# Altium schematic symbol library ic.SchLib: 19 symbols
Pins are listed as number, name and electrical type; pins without a type are passive.

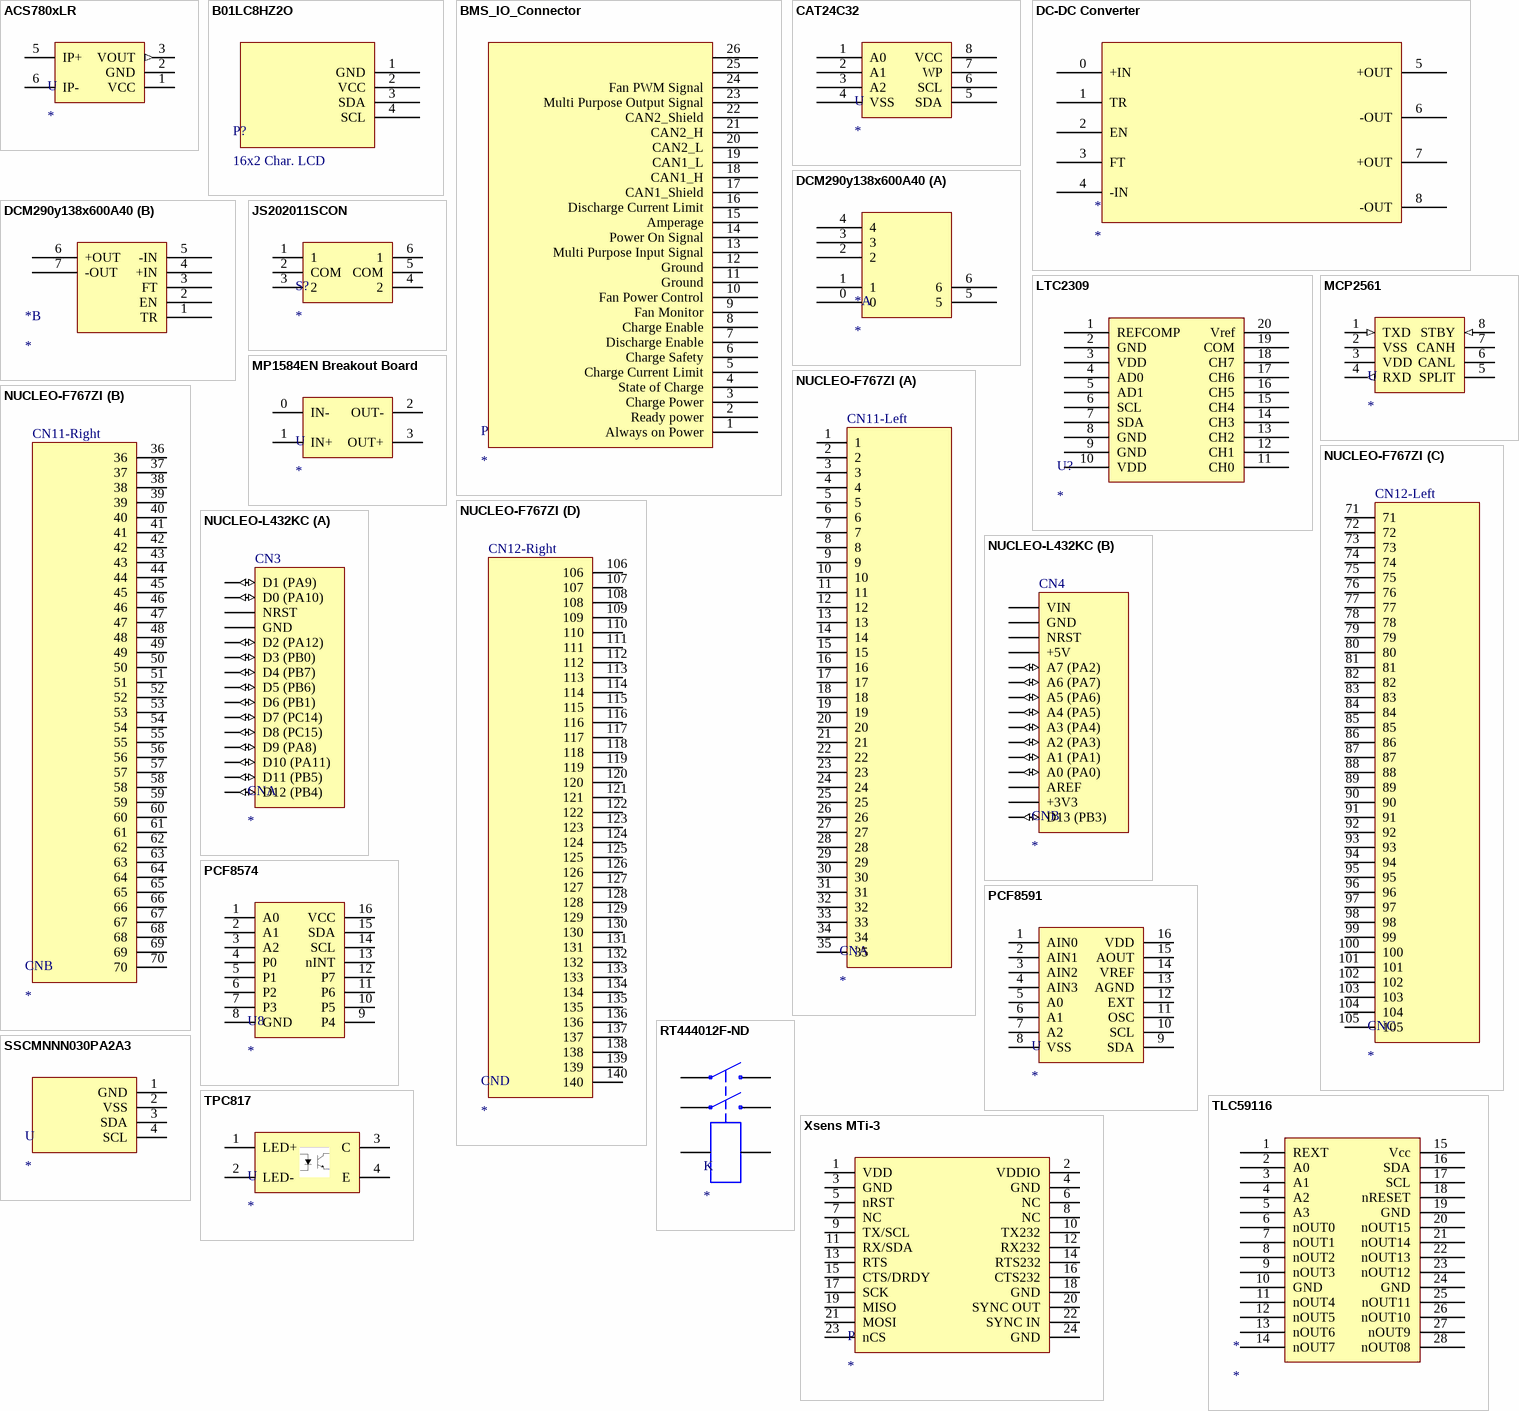
[diagram p0: symbols ACS780xLR to Xsens MTi-3]

## ACS780xLR
designator U
Hall-Effect Current Sensor; ComponentLink1Description: Part; ComponentLink1URL: https://www.digikey.com/product-detail/en/allegro-microsystems-llc/ACS780LLRTR-050B-T/620-1817-1-ND/6189106
footprint 7-pin PSOF (ACS780xLR)
pins: 1 VCC (power) "5V", 2 GND (power), 3 VOUT (out), 5 IP+, 6 IP-

## B01LC8HZ2O
designator P?, comment 16x2 Char. LCD
LCD 16x2 Character; ComponentLink1Description: Part; ComponentLink1URL: https://www.amazon.in/Industry-Interface-Display-Character-MEGA2560/dp/B01LC8HZ2O
footprint B01LC8HZ2O
pins: 1 GND, 2 VCC, 3 SDA, 4 SCL

## BMS_IO_Connector
designator P
pins: 1 Always on Power, 2 Ready power, 3 Charge Power, 4 State of Charge, 5 Charge Current Limit, 6 Charge Safety, 7 Discharge Enable, 8 Charge Enable, 9 Fan Monitor, 10 Fan Power Control, 11 Ground, 12 Ground, 13 Multi Purpose Input Signal, 14 Power On Signal, 15 Amperage, 16 Discharge Current Limit, 17 CAN1_Shield, 18 CAN1_H, 19 CAN1_L, 20 CAN2_L, 21 CAN2_H, 22 CAN2_Shield, 23 Multi Purpose Output Signal, 24 Fan PWM Signal, 25, 26

## CAT24C32
designator U
I2C EEPROM
pins: 1 A0, 2 A1, 3 A2, 4 VSS, 5 SDA, 6 SCL, 7 WP, 8 VCC (power)

## DC-DC Converter
designator *
footprint DCM290y138x600A40
pins: 0 +IN, 1 TR, 2 EN, 3 FT, 4 -IN, 5 +OUT, 6 -OUT, 7 +OUT, 8 -OUT

## DCM290y138x600A40
designator *
footprint DCM290y138x600A40
part A pins: 0, 1, 2, 3, 4, 5, 6
part B pins: 1 TR "Input", 2 EN "Input", 3 FT "Output", 4 +IN "Input Power", 5 -IN "Input Power Negative", 6 +OUT "Output Power", 7 -OUT "Output Power Return"

## JS202011SCON
designator S?
DPST Switch; ComponentLink1Description: Digikey; ComponentLink1URL: https://www.digikey.com/product-detail/en/c-k/JS202011SCQN/401-2002-1-ND/1640098
footprint JS202011SCON
pins: 1, 2 COM, 3 2, 4 2, 5 COM, 6 1

## LTC2309
designator U?
ComponentLink1Description: Datasheet; ComponentLink1URL: http://cds.linear.com/docs/en/datasheet/2309fd.pdf; ComponentLink2Description: Part; ComponentLink2URL: https://www.digikey.com/product-detail/en/linear-technology/LTC2309IF-PBF/LTC2309IF-PBF-ND/1931214
pins: 1 REFCOMP, 2 GND, 3 VDD, 4 AD0, 5 AD1, 6 SCL, 7 SDA, 8 GND, 9 GND, 10 VDD, 11 CH0, 12 CH1, 13 CH2, 14 CH3, 15 CH4, 16 CH5, 17 CH6, 18 CH7, 19 COM, 20 Vref

## MCP2561
designator U
CAN Transciever; ComponentLink1Description: Part; ComponentLink1URL: https://www.digikey.com/product-detail/en/microchip-technology/MCP2561-E-SN/MCP2561-E-SN-ND/4079961; ComponentLink2Description: Datasheet; ComponentLink2URL: http://ww1.microchip.com/downloads/en/DeviceDoc/20005167C.pdf
footprint 8-SOIC
pins: 1 TXD (in) "Transmit Data Input", 2 VSS (power) "Ground", 3 VDD "Supply Voltage", 4 RXD (out) "Receive Data Output", 5 SPLIT "Common Mode Stabilization", 6 CANL, 7 CANH, 8 STBY (in) "Standby Mode Input"

## MP1584EN Breakout Board
designator U
Buck Converter; ComponentLink1Description: Part; ComponentLink1URL: https://www.amazon.com/eBoot-MP1584EN-Converter-Adjustable-Module/dp/B01MQGMOKI/
footprint MP1584EN Breakout (Buck Converter)
pins: 0 IN- (power), 1 IN+ (power) "4.5-28V", 2 OUT- (power), 3 OUT+ (power) "0.8-20V"

## NUCLEO-F767ZI
designator CN
STM32F767ZI Development Board; ComponentLink1Description: MBED; ComponentLink1URL: https://os.mbed.com/platforms/ST-Nucleo-F767ZI/; ComponentLink2Description: Digikey; ComponentLink2URL: https://www.digikey.com/products/en?keywords=NUCLEO-F767ZI
part A pins: 1, 2, 3, 4, 5, 6, 7, 8, 9, 10, 11, 12, 13, 14, 15, 16, 17, 18, 19, 20, 21, 22, 23, 24, 25, 26, 27, 28, 29, 30, 31, 32, 33, 34, 35
part B pins: 36, 37, 38, 39, 40, 41, 42, 43, 44, 45, 46, 47, 48, 49, 50, 51, 52, 53, 54, 55, 56, 57, 58, 59, 60, 61, 62, 63, 64, 65, 66, 67, 68, 69, 70
part C pins: 71, 72, 73, 74, 75, 76, 77, 78, 79, 80, 81, 82, 83, 84, 85, 86, 87, 88, 89, 90, 91, 92, 93, 94, 95, 96, 97, 98, 99, 100, 101, 102, 103, 104, 105
part D pins: 106, 107, 108, 109, 110, 111, 112, 113, 114, 115, 116, 117, 118, 119, 120, 121, 122, 123, 124, 125, 126, 127, 128, 129, 130, 131, 132, 133, 134, 135, 136, 137, 138, 139, 140
part A text: CN11-Left
part B text: CN11-Right
part C text: CN12-Left
part D text: CN12-Right

## NUCLEO-L432KC
designator CN
STM32L432KC Development Board; ComponentLink1Description: MBED; ComponentLink1URL: https://os.mbed.com/platforms/ST-Nucleo-L432KC/; ComponentLink2Description: Digikey; ComponentLink2URL: https://www.digikey.com/products/en?keywords=NUCLEO-L432KC
footprint NUCLEO-32
part A pins: 1 D1 (PA9) (io), 2 D0 (PA10) (io), 3 NRST, 4 GND (power), 5 D2 (PA12) (io), 6 D3 (PB0) (io), 7 D4 (PB7) (io), 8 D5 (PB6) (io), 9 D6 (PB1) (io), 10 D7 (PC14) (io), 11 D8 (PC15) (io), 12 D9 (PA8) (io), 13 D10 (PA11) (io), 14 D11 (PB5) (io), 15 D12 (PB4) (io)
part B pins: 16 D13 (PB3) (io), 17 +3V3 (power), 18 AREF, 19 A0 (PA0) (io), 20 A1 (PA1) (io), 21 A2 (PA3) (io), 22 A3 (PA4) (io), 23 A4 (PA5) (io), 24 A5 (PA6) (io), 25 A6 (PA7) (io), 26 A7 (PA2) (io), 27 +5V (power), 28 NRST, 29 GND (power), 30 VIN (power)
part A text: CN3
part B text: CN4

## PCF8574
designator U8
I2C I/O Expander; ComponentLink1Description: Part; ComponentLink1URL: https://www.digikey.com/product-detail/en/texas-instruments/PCF8574DWR/296-13108-1-ND/484579; ComponentLink2Description: Datasheet; ComponentLink2URL: http://www.ti.com/lit/ds/symlink/pcf8574.pdf
footprint 16-SOIC
pins: 1 A0, 2 A1, 3 A2, 4 P0, 5 P1, 6 P2, 7 P3, 8 GND, 9 P4, 10 P5, 11 P6, 12 P7, 13 nINT, 14 SCL, 15 SDA, 16 VCC

## PCF8591
designator U
8-bit A/D and D/A; ComponentLink1Description: Part; ComponentLink1URL: https://www.digikey.com/product-detail/en/nxp-usa-inc/PCF8591T-2518/568-1088-1-ND/735798; ComponentLink2Description: Datasheet; ComponentLink2URL: https://www.nxp.com/docs/en/data-sheet/PCF8591.pdf
footprint 16-SOIC
pins: 1 AIN0, 2 AIN1, 3 AIN2, 4 AIN3, 5 A0, 6 A1, 7 A2, 8 VSS, 9 SDA, 10 SCL, 11 OSC, 12 EXT, 13 AGND, 14 VREF, 15 AOUT, 16 VDD

## RT444012F-ND
designator K
RELAY GEN PURPOSE DPST 8A 12V; ComponentLink1Description: Digikey; ComponentLink1URL: https://www.digikey.com/product-detail/en/te-connectivity-potter-brumfield-relays/RT444012F/RT444012F-ND/1427665
footprint RT444012F (RELAY GEN PURPOSE DPST 8A 12V)
pins: 1, 2, 3, 4, 5, 6

## SSCMNNN030PA2A3
designator U
Honeywell Digital Pressure Sensor; ComponentLink1Description: Part; ComponentLink1URL: https://www.digikey.com/product-detail/en/honeywell-sensing-and-productivity-solutions/SSCMNNN030PA2A3/480-6407-ND/2416123; ComponentLink2Description: Datasheet; ComponentLink2URL: https://sensing.honeywell.com/index.php?ci_id=151134
footprint 8-SMT
pins: 1 GND (power), 2 VSS (power), 3 SDA, 4 SCL

## TLC59116
designator *
ComponentLink1Description: Datasheet; ComponentLink1URL: http://www.ti.com/lit/ds/symlink/tlc59116-q1.pdf; ComponentLink2Description: part; ComponentLink2URL: https://www.digikey.com/product-detail/en/texas-instruments/TLC59116ITPWRQ1/296-44135-1-ND/6005366
pins: 1 REXT, 2 A0, 3 A1, 4 A2, 5 A3, 6 nOUT0, 7 nOUT1, 8 nOUT2, 9 nOUT3, 10 GND, 11 nOUT4, 12 nOUT5, 13 nOUT6, 14 nOUT7, 15 Vcc, 16 SDA, 17 SCL, 18 nRESET, 19 GND, 20 nOUT15, 21 nOUT14, 22 nOUT13, 23 nOUT12, 24 GND, 25 nOUT11, 26 nOUT10, 27 nOUT9, 28 nOUT08

## TPC817
designator U
Opto-Coupler; ComponentLink1Description: Digi-Key; ComponentLink1URL: https://www.digikey.com/product-detail/en/taiwan-semiconductor-corporation/TPC817S1D-RAG/TPC817S1D-RAGCT-ND/7359685; ComponentLink2Description: Datasheet; ComponentLink2URL: http://www.taiwansemi.com/products/datasheet/TPC817%20SERIES_C1612.pdf
footprint 4-SOP (TPC817)
pins: 1 LED+, 2 LED-, 3 C (oc) "Collector", 4 E (oe) "Emitter"

## Xsens MTi-3
designator P
IMU Development Board; ComponentLink1Description: Purchase; ComponentLink1URL: https://shop-us.xsens.com/shop/mti-1-series/mti-1-series-dk/mti-3-8a7g6-dk; ComponentLink2Description: Documentation; ComponentLink2URL: https://www.xsens.com/products/mti-1-series/
footprint Xsens
pins: 1 VDD (power), 2 VDDIO (power), 3 GND (power), 4 GND (power), 5 nRST, 6 NC, 7 NC, 8 NC, 9 TX/SCL, 10 TX232, 11 RX/SDA, 12 RX232, 13 RTS, 14 RTS232, 15 CTS/DRDY, 16 CTS232, 17 SCK, 18 GND, 19 MISO, 20 SYNC OUT, 21 MOSI, 22 SYNC IN, 23 nCS, 24 GND (power)